# Altium footprint library Drvenkar_Dario.PcbLib: 5 footprints
Each footprint in its own frame and in the unit in brackets; x right, y up, seen from the top. Pads: shape width x height; smd on the part's side, far side on the other; paste and mask are expansions set on the pad; w line width, h text height; cw(c..) or ccw(c..) is an arc to the next point about the centre after c.
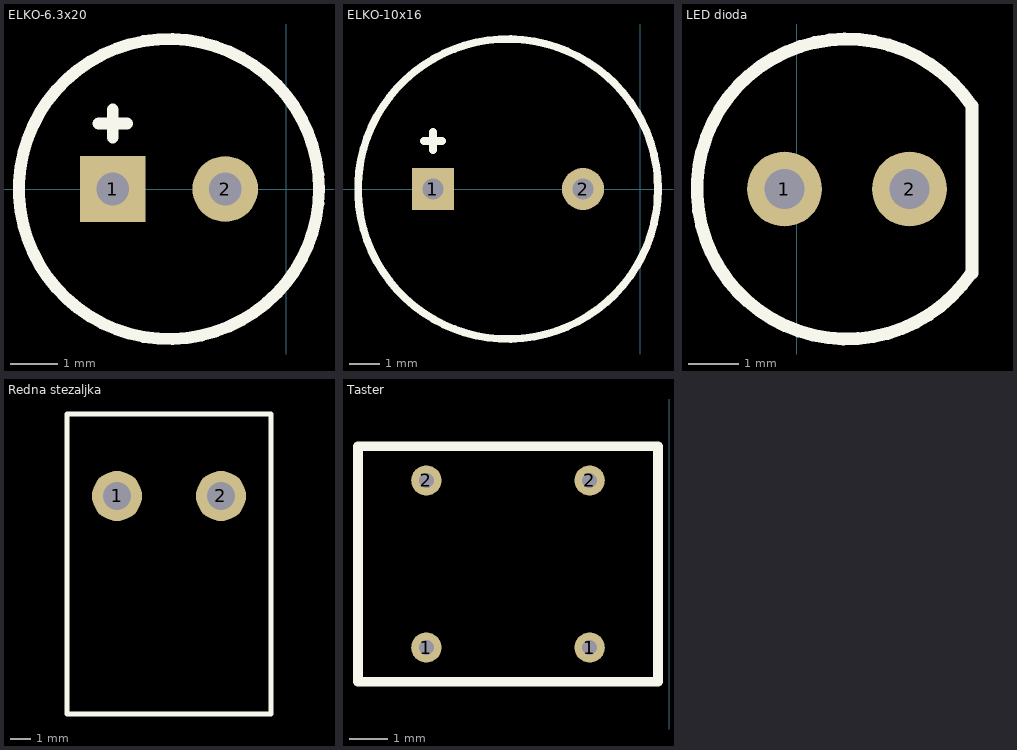
[diagram p0: the footprints below, top view; thin cyan lines are the x and y axes]

## ELKO-6.3x20 [mm]
height 20
pads (2):
  rect 1.4x1.4 hole 0.7: 1(-3.7,0)
  round 1.4 hole 0.7: 2(-1.3,0)
Top Overlay:
  circle w0.254: c-2.5,0 r3.2
  lines w0.254: -4,1.4 -3.4,1.4 ; -3.7,1.1 -3.7,1.7

## ELKO-10x16 [mm]
height 16
pads (2):
  rect 1.4x1.4 hole 0.7: 1(-6.9,0)
  round 1.4 hole 0.7: 2(-1.9,0)
Top Overlay:
  circle w0.254: c-4.4,0 r5
  lines w0.254: -7.2,1.6 -6.6,1.6 ; -6.9,1.3 -6.9,1.9

## LED dioda [mm]
height 8.6
pads (2):
  round 1.5 hole 0.8: 1(-0.25,5.5) 2(2.25,5.5)
Top Overlay:
  lines w0.254: 3.481,3.813 cw(c1,5.5) 3.496,7.164 ; 3.5,3.813 3.5,7.164

## Redna stezaljka [mm]
height 9
pads (2):
  round 2.5 hole 1.4: 1(-645,-682.1) 2(-639.8,-682.1)
Top Overlay:
  lines w0.254: -647.5,-693 -637.3,-693 -637.3,-678 -647.5,-678 -647.5,-693

## Taster [mm]
height 4.1
pads (4):
  round 0.8 hole 0.4: 1(-6.4,2.6) 1(-2.1,2.6) 2(-6.4,7) 2(-2.1,7)
Top Overlay:
  lines w0.254: -8.2,1.7 -0.3,1.7 -0.3,7.9 -8.2,7.9 -8.2,1.7